# Altium footprint library PCB.PcbLib: 15 footprints
Each footprint in its own frame and in the unit in brackets; x right, y up, seen from the top. Pads: shape width x height; smd on the part's side, far side on the other; paste and mask are expansions set on the pad; w line width, h text height; cw(c..) or ccw(c..) is an arc to the next point about the centre after c.
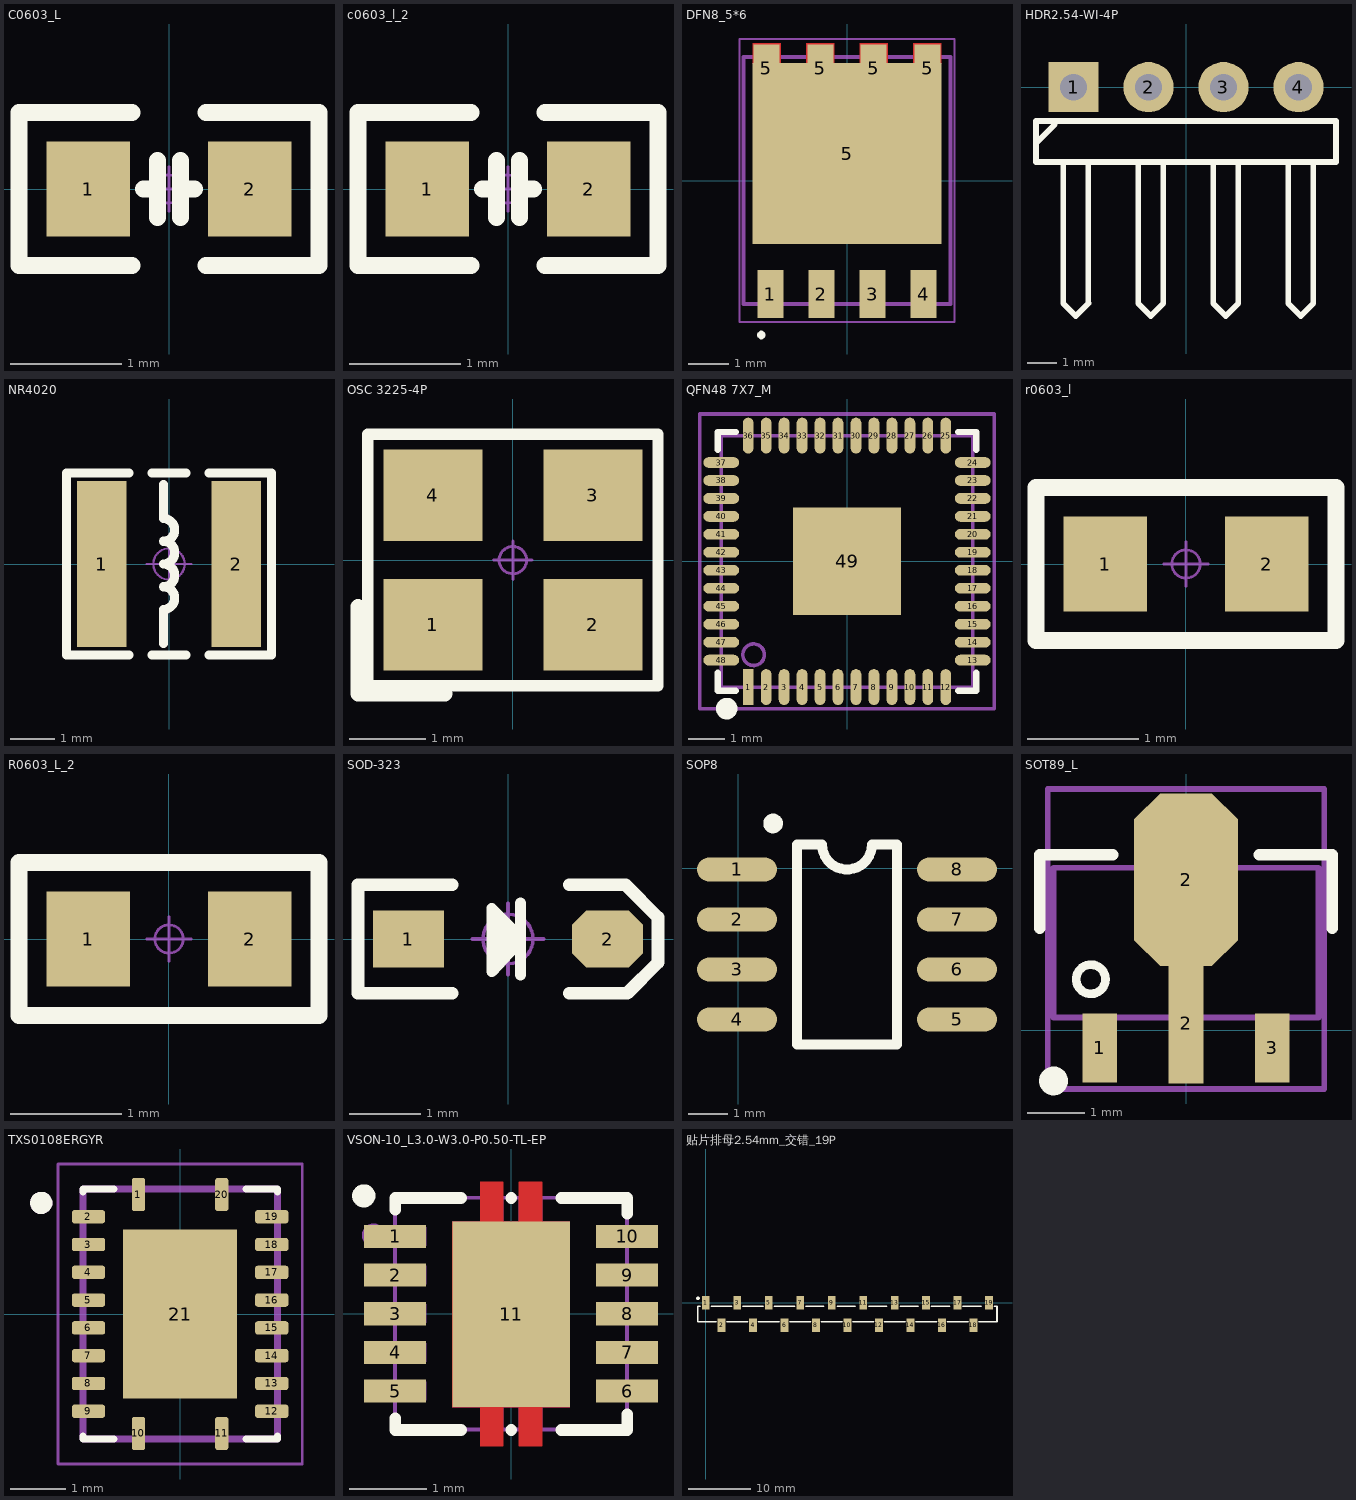
[diagram p0: the footprints below, top view; thin cyan lines are the x and y axes]

## C0603_L [mm]
pads (2):
  rect 0.75x0.85 smd: 1(-0.725,0) 2(0.725,0)
Top Overlay:
  lines w0.152: -0.33,-0.686 -1.346,-0.686 -1.346,0.686 -0.33,0.686 ; -0.229,0 -0.102,0 ; -0.102,-0.254 -0.102,0.254 ; 0.102,-0.254 0.102,0.254 ; 0.102,0 0.229,0 ; 0.33,-0.686 1.346,-0.686 1.346,0.686 0.33,0.686
Mechanical 15:
  circle w0.025: c0,0 r0.127
  lines w0.025: -0.2,0 0.2,0 ; 0,-0.2 0,0.2
3D body "C0603H08-2S.stp": height 0.8, standoff 0, extent -0.8,-0.4 0.8,0.4

## c0603_l_2 [mm]
pads (2):
  rect 0.75x0.85 smd: 1(-0.725,0) 2(0.725,0)
Top Overlay:
  lines w0.152: -0.33,-0.686 -1.346,-0.686 -1.346,0.686 -0.33,0.686 ; -0.229,0 -0.102,0 ; -0.102,-0.254 -0.102,0.254 ; 0.102,-0.254 0.102,0.254 ; 0.102,0 0.229,0 ; 0.33,-0.686 1.346,-0.686 1.346,0.686 0.33,0.686
Mechanical 15:
  circle w0.025: c0,0 r0.127
  lines w0.025: -0.2,0 0.2,0 ; 0,-0.2 0,0.2
3D body "C0603H08-2S.stp": height 0.8, standoff 0, extent -0.8,-0.4 0.8,0.4

## DFN8_5*6 [mm]
pads (9):
  rect 0.65x1.2 smd: 1(-1.905,-2.825) 2(-0.635,-2.825) 3(0.635,-2.825) 4(1.905,-2.825) 5(-2.007,2.794) 5(-0.66,2.794) 5(0.66,2.794) 5(2.007,2.794)
  rect 4.7x4.5 smd: 5(0,0.675)
Top Layer:
  region: 0.315,2.925 1.015,2.925 1.015,3.425 0.315,3.425
  region: -1.015,2.925 -0.315,2.925 -0.315,3.425 -1.015,3.425
  region: 1.65,2.925 2.35,2.925 2.35,3.425 1.65,3.425
  region: -2.35,2.925 -1.65,2.925 -1.65,3.425 -2.35,3.425
Top Overlay:
  region: -2.234,-3.842 -2.234,-3.862 -2.218,-3.899 -2.19,-3.927 -2.153,-3.942 -2.134,-3.942 -2.114,-3.942 -2.077,-3.927 -2.049,-3.899 -2.034,-3.862 -2.034,-3.842 -2.034,-3.822 -2.049,-3.785 -2.077,-3.757 -2.114,-3.742 -2.134,-3.742 -2.153,-3.742 -2.19,-3.757 -2.218,-3.785 -2.234,-3.822
Mechanical 13:
  lines w0.1: -2.575,-3.075 2.575,-3.075 2.575,3.075 -2.575,3.075 -2.575,-3.075
Mechanical 15:
  lines w0.05: -2.675,-3.525 2.675,-3.525 2.675,3.525 -2.675,3.525 -2.675,-3.525
  lines w0.1: -0.5,0 0.5,0 ; 0,-0.5 0,0.5
3D body: height 1, standoff 0, extent -2.575,-3.075 2.575,3.075

## HDR2.54-WI-4P [mm]
pads (4):
  rect 1.7x1.7 hole 0.9: 1(-3.81,0)
  round 1.7 hole 0.9: 2(-1.27,0) 3(1.27,0) 4(3.81,0)
Top Overlay:
  lines w0.2: -5.08,-1.905 -4.445,-1.27 ; -4.158,-2.54 -4.158,-7.332 -3.735,-7.755 -3.311,-7.332 -3.302,-7.323 ; -3.311,-7.323 -3.311,-2.54 ; -1.618,-2.54 -1.618,-7.332 -1.195,-7.755 -0.771,-7.332 ; -0.771,-7.323 -0.771,-2.54 ; 0.922,-2.54 0.922,-7.332 1.345,-7.755 1.769,-7.332 ; 1.769,-7.323 1.769,-2.54 ; 3.462,-2.54 3.462,-7.332 3.885,-7.755 4.309,-7.332 ; 4.309,-7.323 4.309,-2.54 ; -5.08,-2.54 -5.08,-1.143 -3.302,-1.143 5.08,-1.143 5.08,-2.54 -5.08,-2.54
3D body "HDR2.54-1P_H.STEP": height 4.85, standoff -3, extent -5.08,-7.77 -2.54,1.27
3D body "HDR2.54-1P_H.STEP": height 4.85, standoff -3, extent -2.54,-7.77 0,1.27
3D body "HDR2.54-1P_H.STEP": height 4.85, standoff -3, extent 0,-7.77 2.54,1.27
3D body "HDR2.54-1P_H.STEP": height 4.85, standoff -3, extent 2.54,-7.77 5.08,1.27

## NR4020 [mm]
pads (2):
  rect 1.1x3.7 smd: 1(-1.5,0) 2(1.5,0)
Top Overlay:
  lines w0.203: -0.889,-2.032 -2.286,-2.032 -2.286,2.032 -0.889,2.032 ; -0.381,-2.032 0.381,-2.032 ; -0.381,2.032 0.381,2.032 ; -0.127,-1.778 -0.127,-1.016 ccw(c-0.127,-0.762) -0.127,-0.508 ccw(c-0.127,-0.254) -0.127,0 ccw(c-0.127,0.254) -0.127,0.508 ccw(c-0.127,0.762) -0.127,1.016 -0.127,1.778 ; 0.889,-2.032 2.286,-2.032 2.286,2.032 0.889,2.032
Mechanical 15:
  circle w0.05: c0,0 r0.35
  lines w0.05: -0.5,0 0.5,0 ; 0,-0.5 0,0.5
3D body "NR4020.STEP": height 2.1, standoff 0, extent -2,-2 2,2

## OSC 3225-4P [mm]
pads (4):
  rect 1.3x1.2 smd: 1(-1.05,-0.85) 2(1.05,-0.85) 3(1.05,0.85) 4(-1.05,0.85)
Top Overlay:
  lines w0.15: -1.905,-1.651 -1.905,1.651 1.905,1.651 1.905,-1.651 -1.905,-1.651
  lines w0.2: -2.032,-1.753 -0.889,-1.753 ; -2.032,-1.727 -2.032,-0.61
Mechanical 15:
  circle w0.04: c0,0 r0.18
  lines w0.04: -0.254,0 0.254,0 ; 0,-0.254 0,0.254
3D body "OSC 3225-4.STEP": height 0.7, standoff -0.02, extent -1.6,-1.25 1.6,1.25

## QFN48 7X7_M [mm]
pads (49):
  rect 0.3x1 smd: 1(-2.75,-3.5)
  oval 0.3x1 smd: 2(-2.25,-3.5) 3(-1.75,-3.5) 4(-1.25,-3.5) 5(-0.75,-3.5) 6(-0.25,-3.5) 7(0.25,-3.5) 8(0.75,-3.5) 9(1.25,-3.5) 10(1.75,-3.5) 11(2.25,-3.5) 12(2.75,-3.5) 25(2.75,3.5) 26(2.25,3.5) 27(1.75,3.5) 28(1.25,3.5) 29(0.75,3.5) 30(0.25,3.5) 31(-0.25,3.5) 32(-0.75,3.5) 33(-1.25,3.5) 34(-1.75,3.5) 35(-2.25,3.5) 36(-2.75,3.5)
  oval 1x0.3 smd: 13(3.5,-2.75) 14(3.5,-2.25) 15(3.5,-1.75) 16(3.5,-1.25) 17(3.5,-0.75) 18(3.5,-0.25) 19(3.5,0.25) 20(3.5,0.75) 21(3.5,1.25) 22(3.5,1.75) 23(3.5,2.25) 24(3.5,2.75) 37(-3.5,2.75) 38(-3.5,2.25) 39(-3.5,1.75) 40(-3.5,1.25) 41(-3.5,0.75) 42(-3.5,0.25) 43(-3.5,-0.25) 44(-3.5,-0.75) 45(-3.5,-1.25) 46(-3.5,-1.75) 47(-3.5,-2.25) 48(-3.5,-2.75)
  rect 3x3 smd mask+0.051: 49(0,0)
Top Overlay:
  circle w0.3: c-3.35,-4.1 r0.15
  lines w0.178: -3.6,-3.1 -3.6,-3.6 -3.1,-3.6 ; -3.6,3.1 -3.6,3.6 -3.1,3.6 ; 3.1,-3.6 3.6,-3.6 3.6,-3.1 ; 3.1,3.6 3.6,3.6 3.6,3.1
Mechanical 13:
  circle w0.1: c-2.6,-2.6 r0.3
  lines w0.1: -3.5,-3.5 -3.5,3.5 3.5,3.5 3.5,-3.5 -3.5,-3.5
Mechanical 15:
  circle w0.05: c0,0 r0.35
  lines w0.05: -0.5,0 0.5,0 ; 0,-0.5 0,0.5
  lines w0.1: -4.1,-4.1 4.1,-4.1 4.1,4.1 -4.1,4.1 -4.1,-4.1
3D body "QFN48-7X7.STEP": height 0.95, standoff -0.05, extent -3.51,-3.51 3.51,3.51

## r0603_l [mm]
pads (2):
  rect 0.75x0.85 smd: 1(-0.725,0) 2(0.725,0)
Top Overlay:
  lines w0.152: -1.346,-0.686 -1.346,0.686 1.346,0.686 1.346,-0.686 -1.346,-0.686
Mechanical 15:
  circle w0.025: c0,0 r0.127
  lines w0.025: -0.2,0 0.2,0 ; 0,-0.2 0,0.2
3D body "R0603-2.stp": height 0.4, standoff 0, extent -0.8,-0.4 0.8,0.4

## R0603_L_2 [mm]
pads (2):
  rect 0.75x0.85 smd: 1(-0.725,0) 2(0.725,0)
Top Overlay:
  lines w0.152: -1.346,-0.686 -1.346,0.686 1.346,0.686 1.346,-0.686 -1.346,-0.686
Mechanical 15:
  circle w0.025: c0,0 r0.127
  lines w0.025: -0.2,0 0.2,0 ; 0,-0.2 0,0.2
3D body "R0603-2.stp": height 0.4, standoff 0, extent -0.8,-0.4 0.8,0.4

## SOD-323 [mm]
pads (2):
  rect 1x0.8 smd: 1(-1.4,0)
  oct 1x0.8 smd: 2(1.4,0)
Top Overlay:
  lines w0.152: 0.178,-0.508 0.178,0.508 ; 0.178,-0.025 -0.229,-0.457 -0.229,0.432 0.178,0.025
  lines w0.178: -0.787,-0.762 -2.108,-0.762 -2.108,0.762 -0.787,0.762 ; 0.864,-0.762 1.676,-0.762 2.108,-0.33 2.108,0.305 1.651,0.762 0.864,0.762
  lines w0.254: -0.127,0.254 -0.152,-0.178 0.025,-0.025 -0.025,0.127
Mechanical 15:
  circle w0.05: c0,0 r0.35
  lines w0.05: -0.5,0 0.5,0 ; 0,-0.5 0,0.5
3D body "SOD-323.STEP": height 1, standoff 0.04, extent -1.337,-0.631 1.311,0.669

## SOP8 [mil]
pads (8):
  oval 80x24 smd: 1(-1,-1) 2(-1,-51) 3(-1,-101) 4(-1,-151) 5(219,-151) 6(219,-101) 7(219,-51) 8(219,-1)
Top Overlay:
  circle w9.84: c35.08,45 r4.92
  lines w10: 59,-176 59,24 84,24 ccw(c109,24) 134,24 159,24 159,-176 59,-176
3D body "SOP8.STEP": height 74.8, standoff 0.03, extent -11.92,-173.23 224.52,23.62

## SOT89_L [mm]
pads (4):
  rect 0.6x1.2 smd: 1(-1.5,-0.303) 3(1.5,-0.303)
  rect 0.6x2.1 smd: 2(0,0.127)
  oct 1.8x3 smd: 2(0,2.616)
Top Overlay:
  circle w0.25: c-2.3,-0.876 r0.125
  circle w0.15: c-1.651,0.889 r0.254
  lines w0.2: -2.54,1.778 -2.54,3.048 -1.27,3.048 ; 1.27,3.048 2.54,3.048 2.54,1.778
Mechanical 13:
  circle w0.1: c-1.651,0.889 r0.25
  lines w0.1: -2.3,0.224 2.3,0.224 2.3,2.824 -2.3,2.824 -2.3,0.224
Mechanical 15:
  circle w0.05: c0,1.524 r0.35
  lines w0.05: -0.5,1.524 0.5,1.524 ; 0,1.024 0,2.024
  lines w0.1: -2.4,-1.016 2.4,-1.016 2.4,4.191 -2.4,4.191 -2.4,-1.016
3D body "SOT89.STEP": height 1.6, standoff 0.04, extent -2.3,-0.876 2.3,3.424

## TXS0108ERGYR [mm]
pads (21):
  rrect40% 0.24x0.6 smd: 1(-0.75,2.15) 10(-0.75,-2.15) 11(0.75,-2.15) 20(0.75,2.15)
  rrect40% 0.6x0.24 smd: 2(-1.65,1.75) 3(-1.65,1.25) 4(-1.65,0.75) 5(-1.65,0.25) 6(-1.65,-0.25) 7(-1.65,-0.75) 8(-1.65,-1.25) 9(-1.65,-1.75) 12(1.65,-1.75) 13(1.65,-1.25) 14(1.65,-0.75) 15(1.65,-0.25) 16(1.65,0.25) 17(1.65,0.75) 18(1.65,1.25) 19(1.65,1.75)
  rect 2.05x3.05 smd paste-3: 21(0,0)
Top Overlay:
  circle w0.2: c-2.5,2 r0.1
  lines w0.127: -1.75,-2.2 -1.75,-2.25 -1.19,-2.25 ; -1.75,2.2 -1.75,2.25 -1.19,2.25 ; 1.19,-2.25 1.75,-2.25 1.75,-2.2 ; 1.19,2.25 1.75,2.25 1.75,2.2
Top Paste:
  region: -0.1,0.105 -1.02,0.105 -1.02,1.435 -0.1,1.435
  region: -0.1,-1.435 -1.02,-1.435 -1.02,-0.105 -0.1,-0.105
  region: 1.02,0.105 0.1,0.105 0.1,1.435 1.02,1.435
  region: 1.02,-1.435 0.1,-1.435 0.1,-0.105 1.02,-0.105
Mechanical 13:
  circle w0.2: c-2.5,2 r0.1
  lines w0.127: -1.75,-2.25 1.75,-2.25 1.75,2.25 -1.75,2.25 -1.75,-2.25
Mechanical 15:
  lines w0.05: -2.2,-2.7 2.2,-2.7 2.2,2.7 -2.2,2.7 -2.2,-2.7
3D body "step_temp.STEP": height 1, standoff 0, extent -1.75,-2.25 1.75,2.25

## VSON-10_L3.0-W3.0-P0.50-TL-EP [mm]
pads (11):
  rect 0.8x0.3 smd: 1(-1.5,1) 2(-1.5,0.5) 3(-1.5,0) 4(-1.5,-0.5) 5(-1.5,-1) 6(1.5,-1) 7(1.5,-0.5) 8(1.5,0) 9(1.5,0.5) 10(1.5,1)
  rect 1.52x2.4 smd: 11(0.002,-0.009)
Top Layer:
  region: -0.758,1.191 -0.398,1.191 -0.398,1.706 -0.098,1.706 -0.098,1.191 0.102,1.191 0.102,1.706 0.402,1.706 0.402,1.191 0.761,1.191 0.761,-1.209 0.402,-1.209 0.402,-1.714 0.102,-1.714 0.102,-1.209 -0.098,-1.209 -0.098,-1.714 -0.398,-1.714 -0.398,-1.209 -0.759,-1.209 -0.759,0.886 -0.758,0.886
Top Overlay:
  circle w0.15: c-1.905,1.524 r0.075
  lines w0.15: -1.499,-1.353 -1.499,-1.504 -0.648,-1.504 ; -1.499,1.345 -1.499,1.496 -0.648,1.496 ; 0.001,-1.504 0.002,-1.504 ; 0.001,1.496 0.002,1.496 ; 0.651,-1.504 1.501,-1.504 1.501,-1.298 ; 0.651,1.496 1.501,1.496 1.501,1.29
Mechanical 6:
  circle w0.15: c-1.778,1.016 r0.075
Mechanical 15:
  region: -1.41,1.47 -1.41,1.445 -1.445,1.41 -1.495,1.41 -1.53,1.445 -1.53,1.47 -1.53,1.495 -1.495,1.53 -1.445,1.53 -1.41,1.495 -1.41,1.47
  region: 1.1,0.62 1.5,0.62 1.5,0.38 1.1,0.38
  region: 1.1,1.12 1.5,1.12 1.5,0.88 1.1,0.88
  region: 1.1,-0.38 1.5,-0.38 1.5,-0.62 1.1,-0.62
  region: 1.1,-0.88 1.5,-0.88 1.5,-1.12 1.1,-1.12
  region: -1.5,-0.88 -1.1,-0.88 -1.1,-1.12 -1.5,-1.12
  region: -1.5,-0.38 -1.1,-0.38 -1.1,-0.62 -1.5,-0.62
  region: -1.5,0.62 -1.1,0.62 -1.1,0.38 -1.5,0.38
  region: -1.5,1.12 -1.1,1.12 -1.1,0.88 -1.5,0.88
  region: 1.1,0.12 1.5,0.12 1.5,-0.12 1.1,-0.12
  region: -1.1,-0.12 -1.5,-0.12 -1.5,0.12 -1.1,0.12
  region: -0.758,1.191 -0.398,1.191 -0.398,1.5 -0.098,1.5 -0.098,1.191 0.102,1.191 0.102,1.5 0.402,1.5 0.402,1.191 0.761,1.191 0.761,-1.209 0.402,-1.209 0.402,-1.5 0.102,-1.5 0.102,-1.209 -0.098,-1.209 -0.098,-1.5 -0.398,-1.5 -0.398,-1.209 -0.759,-1.209 -0.759,0.886 -0.758,0.886
  lines w0.051: -1.5,-1.5 -1.5,1.5 1.5,1.5 1.5,-1.5 -1.5,-1.5
3D body "U3~VSON-10_L3.0-W3.0-P0.50-TL-EP~VSON-10_L3.0-W3.0-H0.6-P0.50~aweX.STEP": height 0.61, standoff 0, extent -1.509,-1.519 1.511,1.501

## 贴片排母2.54mm_交错_19P [mm]
pads (20):
  rect 1.27x2.2 smd: 1(0,0) 2(2.54,-3.6) 3(5.08,0) 4(7.62,-3.6) 5(10.16,0) 6(12.7,-3.6) 7(15.24,0) 8(17.78,-3.6) 9(20.32,0) 10(22.86,-3.6) 11(25.4,0) 12(27.94,-3.6) 13(30.48,0) 14(33.02,-3.6) 15(35.56,0) 16(38.1,-3.6) 17(40.64,0) 18(43.18,-3.6) 19(45.72,0) ""(43.18,-3.6)
Top Overlay:
  circle w0.3: c-1.27,0.74 r0.15
  lines w0.254: -0.866,-0.53 -1.27,-0.53 -1.27,-3.07 1.674,-3.07 ; 0.866,-0.53 4.214,-0.53 ; 3.406,-3.07 6.754,-3.07 ; 5.946,-0.53 9.294,-0.53 ; 8.486,-3.07 11.834,-3.07 ; 11.026,-0.53 14.374,-0.53 ; 13.566,-3.07 16.914,-3.07 ; 16.106,-0.531 19.05,-0.531 ; 18.646,-3.07 21.994,-3.07 ; 21.186,-0.531 24.13,-0.531 ; 23.726,-3.07 27.074,-3.07 ; 26.266,-0.531 29.21,-0.531 ; 28.806,-3.07 32.154,-3.07 ; 31.346,-0.531 34.29,-0.531 ; 33.886,-3.07 37.234,-3.07 ; 36.426,-0.531 39.37,-0.531 ; 38.966,-3.07 42.314,-3.07 ; 41.506,-0.531 44.45,-0.531 ; 44.046,-3.069 46.99,-3.069 46.99,-0.53 46.586,-0.53
3D body "HDR-SMD_8P-P2.54-V-F-LS4.9~HDR-SMD_8P-P2.54-V-F-LS4.9~xS7p.STEP": height 5.3, standoff 0, extent 18.821,-4.24 39.642,0.66
3D body "HDR-SMD_8P-P2.54-V-F-LS4.9~HDR-SMD_8P-P2.54-V-F-LS4.9~xS7p.STEP": height 5.3, standoff 0, extent -1.499,-4.24 19.322,0.66